# Altium footprint library USB_MINER.PcbLib: 36 footprints (part 2 of 3)
Each footprint in its own frame and in the unit in brackets; x right, y up, seen from the top. Pads: shape width x height; smd on the part's side, far side on the other; paste and mask are expansions set on the pad; w line width, h text height; cw(c..) or ccw(c..) is an arc to the next point about the centre after c.
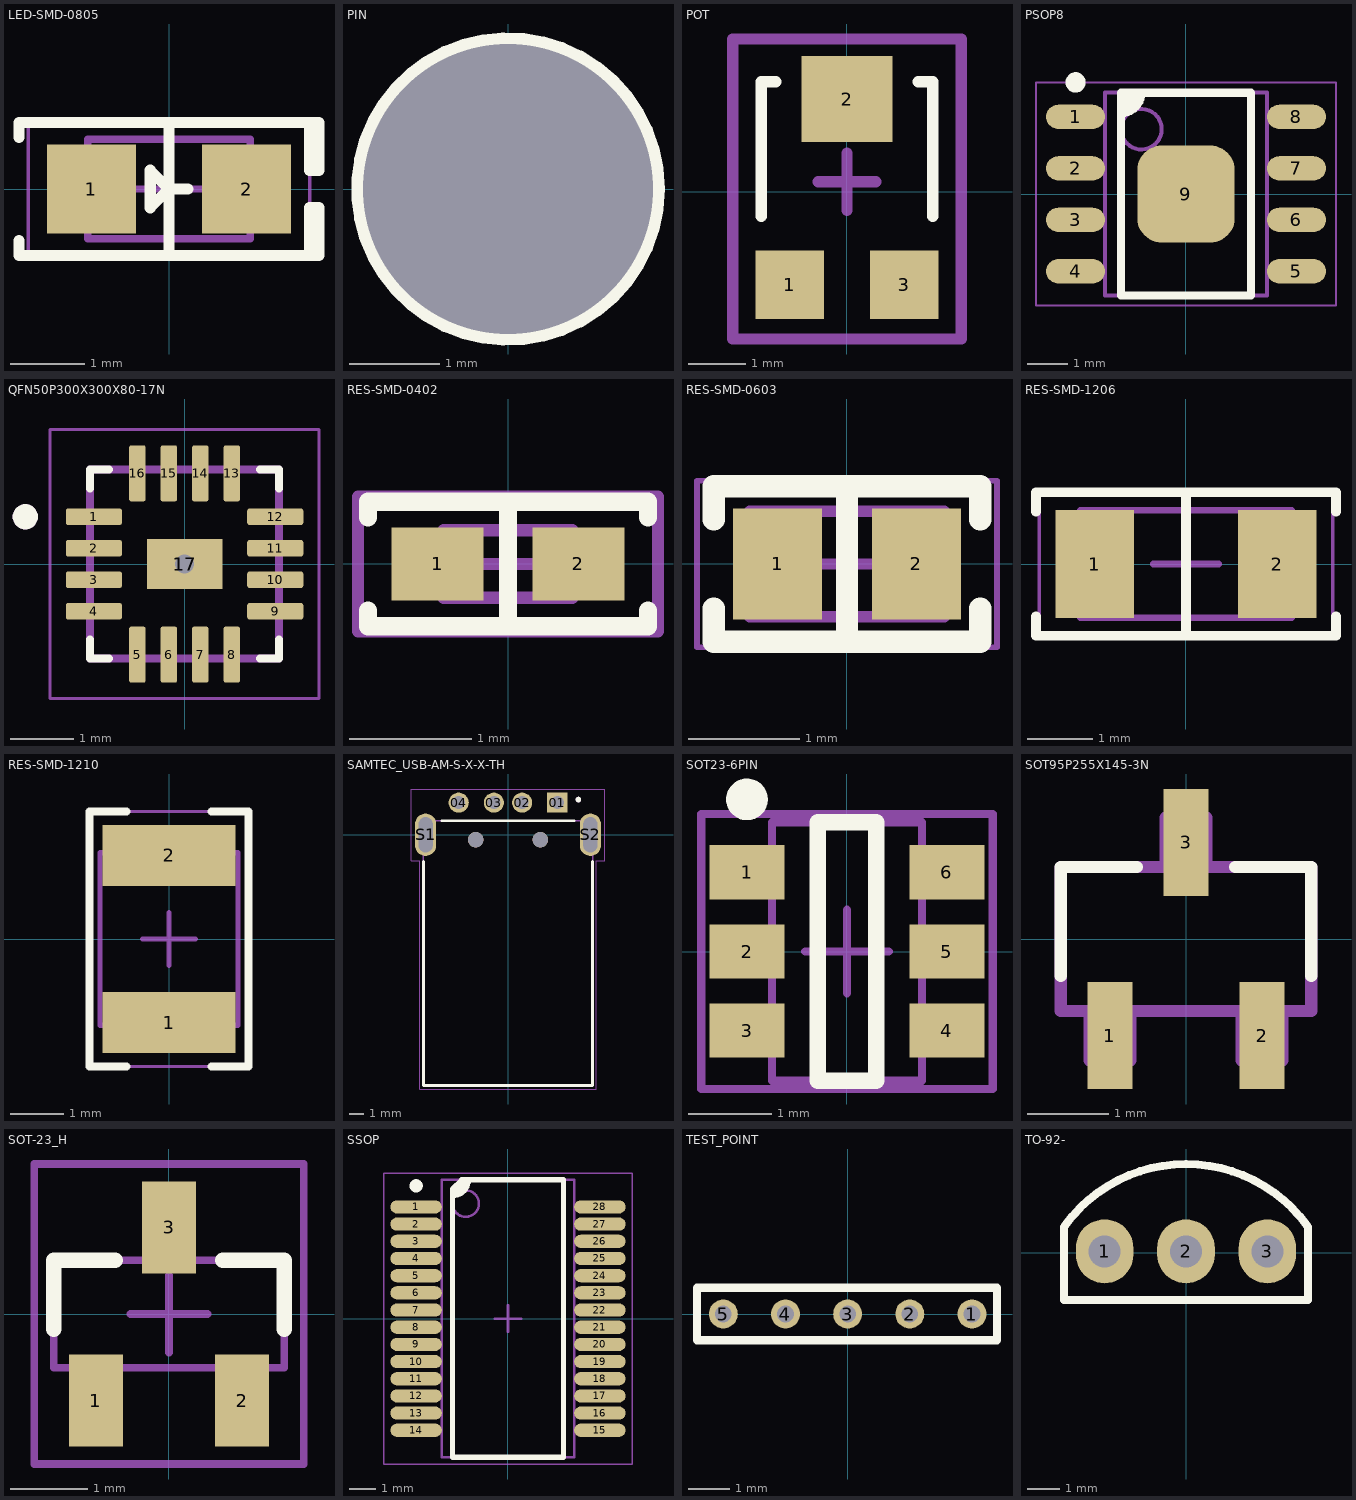
[diagram p1: the footprints below, top view; thin cyan lines are the x and y axes]

## LED-SMD-0805 [mm]
pads (2):
  rect 1.2x1.2 smd: 1(-1.05,0) 2(1.05,0)
Top Overlay:
  lines w0.15: -2.032,-0.7 -2.032,-0.9 1.905,-0.9 ; -2.032,0.7 -2.032,0.9 1.905,0.9 ; 0,-0.9 0,0.9 ; 0.254,0 0,0 ; 0,0 -0.254,0.254 -0.254,-0.254 0,0 ; 1.905,-0.9 2.032,-0.9 2.032,-0.254 1.905,-0.254 1.905,-0.9 ; 1.905,0.9 2.032,0.9 2.032,0.254 1.905,0.254 1.905,0.9
Mechanical 13:
  lines w0.1: -1.1,-0.675 -1.1,0.675 1.1,0.675 1.1,-0.675 -1.1,-0.675
Mechanical 15:
  lines w0.05: -1.905,-0.95 -1.905,0.95 1.905,0.95 1.905,-0.95 -1.905,-0.95
  lines w0.1: -0.5,0 0.5,0 ; 0,-0.5 0,0.5
3D body "LED 0805 Lens RED.STEP": height 0.9, standoff 0.3, extent -0.65,-0.625 0.65,0.625
3D body "LED 0805 Base RED.STEP": height 0.4, standoff 0, extent -1,-0.625 1,0.625

## PIN [mm]
pads (1):
  round 0 hole 3.2 mask+1: 0(0,0)
Top Overlay:
  circle w0.15: c0,0 r1.656

## POT [mm]
pads (3):
  rect 1.2x1.2 smd: 1(-1,-1.625) 3(1,-1.625)
  rect 1.6x1.5 smd: 2(0,1.625)
Top Overlay:
  lines w0.2: -1.5,-0.425 -1.5,1.925 -1.25,1.925 ; 1.25,1.925 1.5,1.925 1.5,-0.425
Mechanical 15:
  lines w0.2: -0.5,0.175 0.5,0.175 ; 0,-0.325 0,0.675 ; -2,-2.575 2,-2.575 2,2.675 -2,2.675 -2,-2.575
3D body "BOURNS TC33.step": height 1.15, standoff -0.02, extent -1.8,-1.738 1.8,2.125

## PSOP8 [mm]
pads (9):
  oval 1.45x0.6 smd: 1(-2.725,1.905) 2(-2.725,0.635) 3(-2.725,-0.635) 4(-2.725,-1.905) 5(2.725,-1.905) 6(2.725,-0.635) 7(2.725,0.635) 8(2.725,1.905)
  rrect50% 2.4x2.4 smd: 9(0,0)
Top Overlay:
  circle w0.25: c-2.725,2.755 r0.125
  region: -1.6,2.5 -1.1,2.5 -1.1,2.3 -1.4,2 -1.6,2
  lines w0.2: -1.6,2 ccw(c-1.6,2.5) -1.1,2.5 ; -1.6,-2.5 1.6,-2.5 1.6,2.5 -1.6,2.5 -1.6,-2.5
Mechanical 13:
  circle w0.1: c-1.1,1.6 r0.5
  lines w0.1: -2,-2.5 2,-2.5 2,2.5 -2,2.5 -2,-2.5
Mechanical 15:
  lines w0.05: -3.7,-2.75 3.7,-2.75 3.7,2.75 -3.7,2.75 -3.7,-2.75
  lines w0.1: -0.5,0 0.5,0 ; 0,-0.5 0,0.5
3D body "ANALOG SO-8 R-8.step": height 1.75, standoff 0, extent -3,-2.5 3,2.5

## QFN50P300X300X80-17N [mm]
pads (18):
  rrect25% 0.89x0.26 smd: 1(-1.44,0.75) 2(-1.44,0.25) 3(-1.44,-0.25) 4(-1.44,-0.75) 9(1.44,-0.75) 10(1.44,-0.25) 11(1.44,0.25) 12(1.44,0.75)
  rrect25% 0.26x0.89 smd: 5(-0.75,-1.44) 6(-0.25,-1.44) 7(0.25,-1.44) 8(0.75,-1.44) 13(0.75,1.44) 14(0.25,1.44) 15(-0.25,1.44) 16(-0.75,1.44)
  rect 1.2x0.8 smd paste-2: 17(0,0)
  round 0.5 hole 0.3: 17(0,0)
Top Overlay:
  circle w0.2: c-2.53,0.75 r0.1
  lines w0.127: -1.5,-1.2 -1.5,-1.5 -1.2,-1.5 ; -1.5,1.2 -1.5,1.5 -1.2,1.5 ; 1.2,-1.5 1.5,-1.5 1.5,-1.2 ; 1.2,1.5 1.5,1.5 1.5,1.2
Top Paste:
  region: 0.38,-0.25 -0.38,-0.25 -0.38,0.25 0.38,0.25
Mechanical 13:
  circle w0.2: c-2.53,0.75 r0.1
  lines w0.127: -1.5,-1.5 -1.5,1.5 1.5,1.5 1.5,-1.5 -1.5,-1.5
Mechanical 15:
  lines w0.05: -2.135,-2.135 -2.135,2.135 2.135,2.135 2.135,-2.135 -2.135,-2.135
3D body "step_temp.STEP": height 0.8, standoff 0, extent -1.5,-1.5 1.5,1.5

## RES-SMD-0402 [mm]
pads (2):
  rect 0.75x0.6 smd: 1(-0.575,0) 2(0.575,0)
Top Overlay:
  lines w0.15: -1.143,-0.381 -1.143,-0.508 1.143,-0.508 1.143,-0.381 ; -1.143,0.381 -1.143,0.508 1.143,0.508 1.143,0.381 ; 0,-0.508 0,0.508
Mechanical 13:
  lines w0.1: -0.525,-0.275 0.525,-0.275 0.525,0.275 -0.525,0.275 -0.525,-0.275
Mechanical 15:
  lines w0.1: -0.275,0 0.275,0 ; 0,-0.275 0,0.275 ; -1.225,-0.55 1.225,-0.55 1.225,0.55 -1.225,0.55 -1.225,-0.55
3D body "0402 resistor.STEP": height 0.35, standoff 0, extent -0.5,-0.25 0.5,0.25

## RES-SMD-0603 [mm]
pads (2):
  rect 0.8x1 smd: 1(-0.625,0) 2(0.625,0)
Top Overlay:
  lines w0.2: -1.2,-0.4 -1.2,-0.7 1.2,-0.7 1.2,-0.4 ; -1.2,0.4 -1.2,0.7 1.2,0.7 1.2,0.4 ; 0,-0.7 0,0.7
Mechanical 13:
  lines w0.1: -0.875,-0.475 -0.875,0.475 0.875,0.475 0.875,-0.475 -0.875,-0.475
Mechanical 15:
  lines w0.05: -1.35,-0.75 -1.35,0.75 1.35,0.75 1.35,-0.75 -1.35,-0.75
  lines w0.1: -0.475,0 0.475,0 ; 0,-0.475 0,0.475
3D body "NTC 0603.STEP": height 0.82, standoff 0, extent -0.8,-0.412 0.8,0.412

## RES-SMD-1206 [mm]
pads (2):
  rect 1.2x1.65 smd: 1(-1.4,0) 2(1.4,0)
Top Overlay:
  lines w0.15: -2.3,-0.8 -2.3,-1.1 2.3,-1.1 2.3,-0.8 ; -2.3,0.8 -2.3,1.1 2.3,1.1 2.3,0.8 ; 0,-1.1 0,1.1
Mechanical 13:
  lines w0.1: -1.625,-0.825 -1.625,0.825 1.625,0.825 1.625,-0.825 -1.625,-0.825
Mechanical 15:
  lines w0.05: -2.25,-1.1 -2.25,1.1 2.25,1.1 2.25,-1.1 -2.25,-1.1
  lines w0.1: -0.5,0 0.5,0 ; 0,-0.5 0,0.5
3D body "1206 resistor.STEP": height 0.6, standoff 0, extent -1.575,-0.8 1.625,0.8

## RES-SMD-1210 [mm]
pads (2):
  rect 2.5x1.15 smd: 1(0,-1.575) 2(0,1.575)
Top Overlay:
  lines w0.15: -0.8,-2.4 -1.5,-2.4 -1.5,2.4 -0.8,2.4 ; 0.8,-2.4 1.5,-2.4 1.5,2.4 0.8,2.4
Mechanical 13:
  lines w0.1: -1.3,-1.625 -1.3,1.625 1.3,1.625 1.3,-1.625 -1.3,-1.625
Mechanical 15:
  lines w0.05: -1.5,-2.4 -1.5,2.4 1.5,2.4 1.5,-2.4 -1.5,-2.4
  lines w0.1: -0.5,0 0.5,0 ; 0,-0.5 0,0.5
3D body "RES - 1210.step": height 0.7, standoff 0, extent -1.25,-1.6 1.25,1.6

## SAMTEC_USB-AM-S-X-X-TH [mm]
pads (8):
  rect 1.428x1.428 hole 0.92: 01(3.5,2.28)
  round 1.428 hole 0.92: 02(1,2.28) 03(-1,2.28) 04(-3.5,2.28)
  oval 1.508x3.016 hole 1 slot 2.5 at 90 deg: S1(-5.85,0) S2(5.85,0)
  round 1.1 hole 1.1 unplated: ""(-2.3,-0.35) ""(2.3,-0.35)
Top Overlay:
  circle w0.2: c5,2.5 r0.1
  lines w0.2: -6,-1.9 -6,-17.8 6,-17.8 6,-1.9 ; -4.7,1 4.7,1
Mechanical 13:
  circle w0.2: c5,2.5 r0.1
  lines w0.1: -6,-17.8 6,-17.8 6,1 -6,1 -6,-17.8
Mechanical 15:
  lines w0.05: -6.855,-1.86 -6.25,-1.86 -6.25,-18.05 6.25,-18.05 6.25,-1.86 6.855,-1.86 6.855,3.25 -6.855,3.25 -6.855,-1.86
3D body "USB-AM-S-F-B-TH.stp": height 4.5, standoff -1.39, extent -6.35,-17.655 6.35,2.545

## SOT23-6PIN [mm]
pads (6):
  rect 0.9x0.65 smd: 1(-1.2,0.95) 2(-1.2,0) 3(-1.2,-0.95) 4(1.2,-0.95) 5(1.2,0) 6(1.2,0.95)
Top Overlay:
  circle w0.25: c-1.2,1.825 r0.125
  lines w0.2: -0.35,-1.55 -0.35,1.55 0.35,1.55 0.35,-1.55 -0.35,-1.55
Mechanical 13:
  lines w0.1: -0.9,-1.55 0.9,-1.55 0.9,1.55 -0.9,1.55 -0.9,-1.55
Mechanical 15:
  lines w0.1: -0.5,0 0.5,0 ; 0,-0.5 0,0.5 ; -1.75,-1.65 1.75,-1.65 1.75,1.65 -1.75,1.65 -1.75,-1.65
3D body: height 1.45, standoff 0, extent -0.9,-1.55 0.9,1.55

## SOT95P255X145-3N [mil]
pads (3):
  rect 22x52 smd: 1(-37,-47) 2(37,-47) 3(0,47)
Top Overlay:
  lines w6: -61,-18 -61,35 -24,35 ; 24,35 61,35 61,-18
Mechanical 13:
  lines w6: -61,-35 -61,35 61,35 61,-35 -61,-35 ; -47,-59 -27,-59 -27,-35 -47,-35 -47,-59 ; -10,35 -10,59 10,59 10,35 -10,35 ; 27,-59 47,-59 47,-35 27,-35 27,-59
3D body "SOT-23-3.STEP": height 39.65, standoff -0.11, extent -59.06,-49.21 59.05,49.22

## SOT-23_H [mm] "SOT23, 3-Leads, Body 2.9x1.3mm, Pitch 0.95mm, Lead Span 2.5mm, IPC Medium Density"
height 1.1
pads (3):
  rect 0.7x1.2 smd: 1(-0.95,-1.125) 2(0.95,-1.125) 3(0,1.125)
Top Overlay:
  lines w0.2: -1.5,-0.2 -1.5,0.7 -0.7,0.7 ; 0.7,0.7 1.5,0.7 1.5,-0.2
Mechanical 13:
  lines w0.1: -1.5,-0.7 -1.5,0.7 1.5,0.7 1.5,-0.7 -1.5,-0.7
Mechanical 15:
  lines w0.1: -0.5,0 0.5,0 ; 0,-0.5 0,0.5 ; -1.75,-1.95 -1.75,1.95 1.75,1.95 1.75,-1.95 -1.75,-1.95
3D body "SOT-23-3.STEP": height 1.01, standoff 0, extent -1.5,-1.25 1.5,1.25

## SSOP [mm]
pads (28):
  oval 1.95x0.5 smd: 1(-3.475,4.225) 2(-3.475,3.575) 3(-3.475,2.925) 4(-3.475,2.275) 5(-3.475,1.625) 6(-3.475,0.975) 7(-3.475,0.325) 8(-3.475,-0.325) 9(-3.475,-0.975) 10(-3.475,-1.625) 11(-3.475,-2.275) 12(-3.475,-2.925) 13(-3.475,-3.575) 14(-3.475,-4.225) 15(3.475,-4.225) 16(3.475,-3.575) 17(3.475,-2.925) 18(3.475,-2.275) 19(3.475,-1.625) 20(3.475,-0.975) 21(3.475,-0.325) 22(3.475,0.325) 23(3.475,0.975) 24(3.475,1.625) 25(3.475,2.275) 26(3.475,2.925) 27(3.475,3.575) 28(3.475,4.225)
Top Overlay:
  circle w0.25: c-3.475,5.025 r0.125
  region: -2.1,4.65 -1.981,4.65 -1.76,4.741 -1.591,4.91 -1.5,5.131 -1.5,5.25 -1.8,5.25 -2.1,4.95
  lines w0.2: -2.1,4.65 ccw(c-2.1,5.25) -1.5,5.25 ; -2.1,-5.25 -2.1,4.9 -1.75,5.25 2.1,5.25 2.1,-5.25 -2.1,-5.25
Mechanical 13:
  circle w0.1: c-1.6,4.35 r0.5
  lines w0.1: -2.5,-5.25 -2.5,5.25 2.5,5.25 2.5,-5.25 -2.5,-5.25
Mechanical 15:
  lines w0.05: -4.7,-5.5 -4.7,5.5 4.7,5.5 4.7,-5.5 -4.7,-5.5
  lines w0.1: -0.5,0 0.5,0 ; 0,-0.5 0,0.5
3D body "SSOP-28-TI-DB.STEP": height 1.97, standoff 0, extent -3.91,-5.1 3.911,5.1

## TEST_POINT [mm]
pads (5):
  round 0.7 hole 0.4: 1(3,0) 2(1.5,0) 3(0,0) 4(-1.5,0) 5(-3,0)
Top Overlay:
  lines w0.2: -3.635,-0.635 3.604,-0.635 3.604,0.635 -3.635,0.635 -3.635,-0.635

## TO-92- [mm]
height 9.1
pads (3):
  oval 1.8x2 hole 1: 1(-2.54,0.051) 2(0,0.051) 3(2.54,0.051)
Top Overlay:
  lines w0.254: -3.81,0.813 -3.81,-1.473 3.81,-1.473 3.81,0.813 ; -3.777,0.865 cw(c0,-1.905) 3.777,0.865
3D body "SOT54A.stp": height 13.2, standoff -4.7, extent -2.831,-1.406 2.729,2.794